# EAGLE library part NJM2670 (library IntegerLabs)
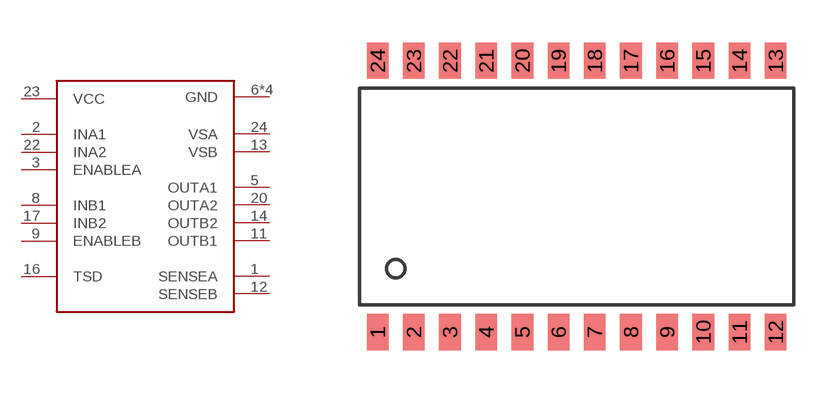
[diagram p16: symbol with the pads of SOP-24-E3; footprint SOP-24-E3]

Designator prefix -

## NJM2670  [SOP-24-E3]
1  SENSEA
2  INA1
3  ENABLEA
5  OUTA1
6  GND
7  GND
8  INB1
9  ENABLEB
11  OUTB1
12  SENSEB
13  VSB
14  OUTB2
16  TSD
17  INB2
18  GND
19  GND
20  OUTA2
22  INA2
23  VCC
24  VSA

## Footprint SOP-24-E3 (pad centres in mm)
smd 0.762 x 1.27: 1 -6.35,-4.445; 2 -5.08,-4.445; 3 -3.81,-4.445; 4 -2.54,-4.445; 5 -1.27,-4.445; 6 0,-4.445; 7 1.27,-4.445; 8 2.54,-4.445; 9 3.81,-4.445; 10 5.08,-4.445; 11 6.35,-4.445; 12 7.62,-4.445; 13 7.62,5.08; 14 6.35,5.08; 15 5.08,5.08; 16 3.81,5.08; 17 2.54,5.08; 18 1.27,5.08; 19 0,5.08; 20 -1.27,5.08; 21 -2.54,5.08; 22 -3.81,5.08; 23 -5.08,5.08; 24 -6.35,5.08